# EAGLE library part 351 (library relay)
RELAY 2 x switch, Omron
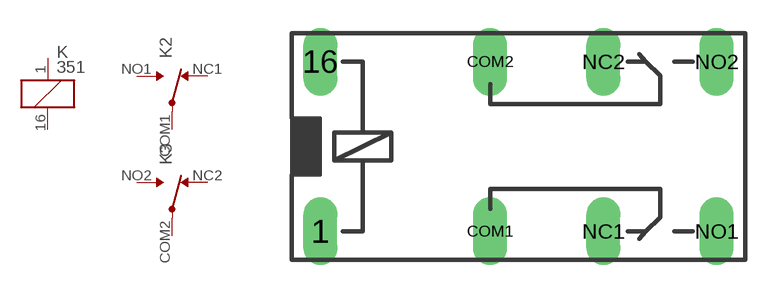
[diagram p3: symbol with the pads of 351; footprint 351]

Designator prefix K; gates 1=K 2=U 3=U

## 351  [351]
1  1:1  pas
16  1:2  pas
COM1  2:COM  pas
COM2  3:COM  pas
NC1  2:NC  pas
NC2  3:NC  pas
NO1  2:NO  pas
NO2  3:NO  pas

## Footprint 351 (pad centres in mm)
RELAY 2 x switch, same as G5 V-2, Omron
drill 1.016 long: 1 -3.81,-3.81; 16 -3.81,3.81; COM1 3.81,-3.81; COM2 3.81,3.81; NC1 8.89,-3.81; NC2 8.89,3.81; NO1 13.97,-3.81; NO2 13.97,3.81